# EAGLE library part HEADER-06P-2R (library deiring-components)
Header 6 Pin 2 Row
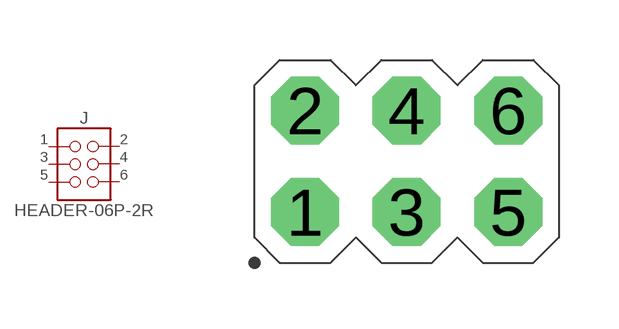
[diagram p39: symbol with the pads of PZ254V-12-6P; footprint PZ254V-12-6P]

Designator prefix J

## HEADER-06P-2R-PZ254V-12-6P (LCSC: C492420; MF: XFCN; MPN: PZ254V-12-6P; VALUE: 6P)  [PZ254V-12-6P]
1  01  pas
2  02  pas
3  03  pas
4  04  pas
5  05  pas
6  06  pas

## Footprint PZ254V-12-6P (pad centres in mm)
drill 1 pad 1.7 octagon: 1 -2.54,-1.27; 2 -2.54,1.27; 3 0,-1.27; 4 0,1.27; 5 2.54,-1.27; 6 2.54,1.27